# Altium footprint library 2SB815-6-TB-E.PcbLib: 1 footprints
Each footprint in its own frame and in the unit in brackets; x right, y up, seen from the top. Pads: shape width x height; smd on the part's side, far side on the other; paste and mask are expansions set on the pad; w line width, h text height; cw(c..) or ccw(c..) is an arc to the next point about the centre after c.
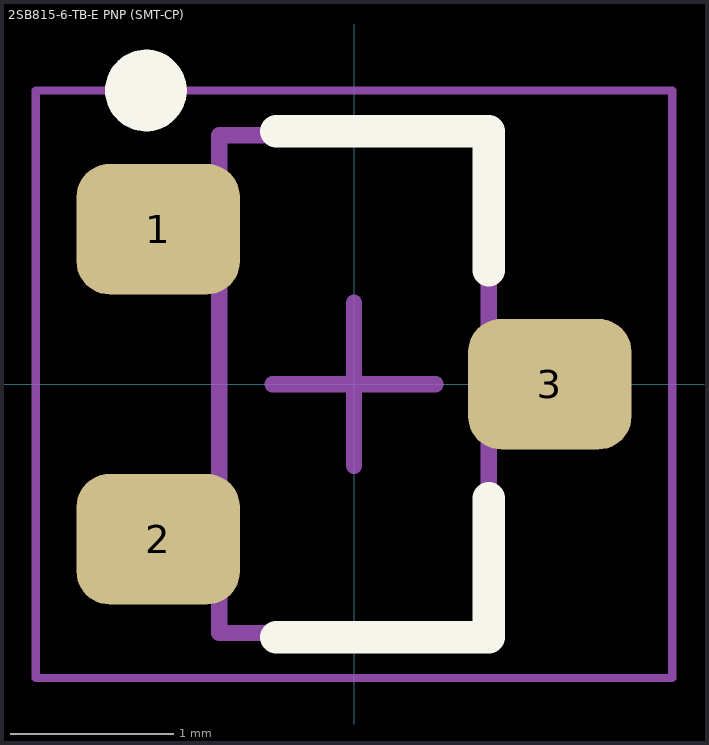
[diagram p0: the footprint, top view; thin cyan lines are the x and y axes]

## 2SB815-6-TB-E PNP (SMT-CP) [mm] "SOT23, 3-Leads, Body 2.90x2.50mm, Pitch 0.95mm, IPC Medium Density"
height 1.3
pads (3):
  rrect50% 1x0.8 smd: 1(-1.2,0.95) 2(-1.2,-0.95) 3(1.2,0)
Top Overlay:
  circle w0.25: c-1.275,1.8 r0.125
  lines w0.2: -0.475,-1.55 0.825,-1.55 0.825,-0.7 ; -0.475,1.55 0.825,1.55 0.825,0.7
Assembly Top:
  lines w0.1: -0.825,-1.525 0.825,-1.525 0.825,1.525 -0.825,1.525 -0.825,-1.525
Courtyard Top:
  lines w0.05: -1.95,-1.8 1.95,-1.8 1.95,1.8 -1.95,1.8 -1.95,-1.8
  lines w0.1: -0.5,0 0.5,0 ; 0,-0.5 0,0.5
3D body: height 1.3, standoff 0, extent -0.825,-1.525 0.825,1.525